# Altium footprint library NX5032GA.PcbLib: 1 footprints
Each footprint in its own frame and in the unit in brackets; x right, y up, seen from the top. Pads: shape width x height; smd on the part's side, far side on the other; paste and mask are expansions set on the pad; w line width, h text height; cw(c..) or ccw(c..) is an arc to the next point about the centre after c.
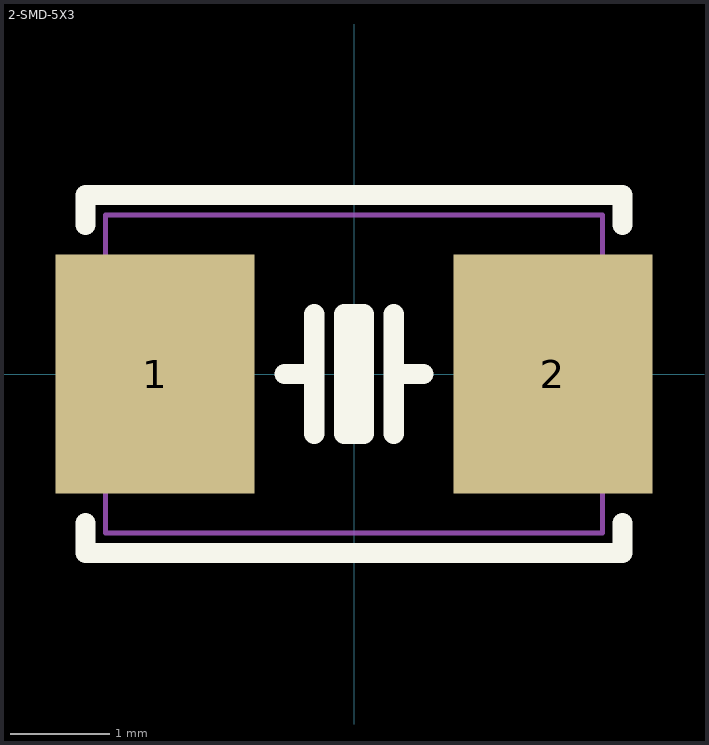
[diagram p0: the footprint, top view; thin cyan lines are the x and y axes]

## 2-SMD-5X3 [mm]
pads (2):
  rect 2x2.4 smd: 1(-2,0) 2(2,0)
Top Overlay:
  lines w0.203: -2.7,-1.5 -2.7,-1.8 2.7,-1.8 2.7,-1.5 ; -2.7,1.5 -2.7,1.8 2.7,1.8 2.7,1.5 ; -0.7,0 -0.4,0 ; -0.4,-0.6 -0.4,0 ; -0.4,0.6 -0.4,0 ; 0.4,-0.6 0.4,0 ; 0.4,0.6 0.4,0 ; 0.7,0 0.4,0 ; -0.1,-0.6 -0.1,0.6 0.1,0.6 0.1,-0.6 -0.1,-0.6
Mechanical 13:
  lines w0.051: -2.5,-1.6 -2.5,1.6 2.5,1.6 2.5,-1.6 -2.5,-1.6